# EAGLE library part QX9921 (library chip)
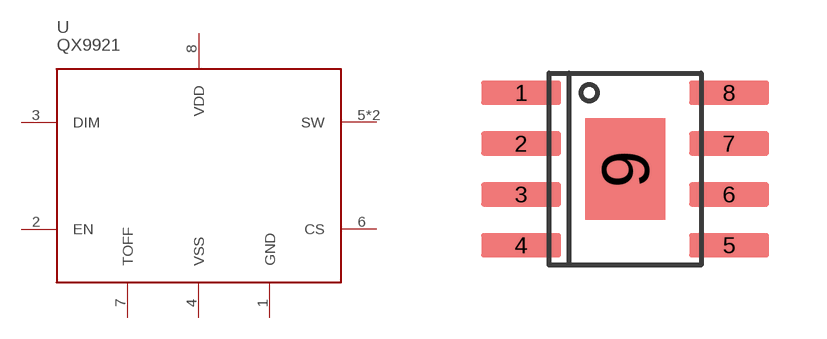
[diagram p11: symbol with the pads of SOIC8E; footprint SOIC8E]

Designator prefix U

## QX9921  [SOIC8E]
1  GND  pas
2  EN  in
3  DIM
4  VSS  pas
5  SW  in
6  CS  in
7  TOFF  pas
8  VDD  pwr
9  SW  in

## Footprint SOIC8E (pad centres in mm)
smd 2 x 0.6: 1 -2.6,2.54; 2 -2.6,1.27; 3 -2.6,0; 4 -2.6,-1.27; 5 2.6,-1.27; 6 2.6,0; 7 2.6,1.27; 8 2.6,2.54
smd 2 x 2.54: 9 0,0.635